# EAGLE library part FTSH-117 (library headstage-no-omnetics)
FTSH-117 17x2 Samtec Header 2 row 50 mil spacing
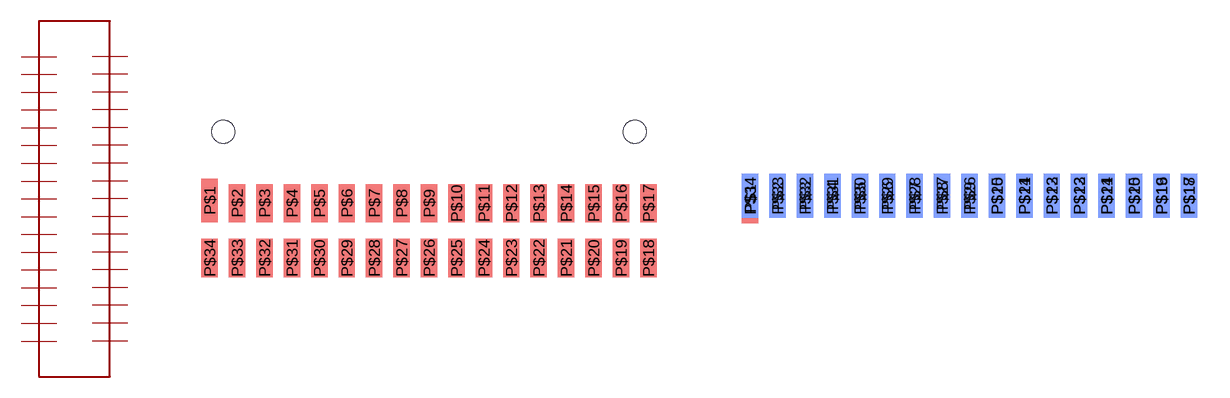
[diagram p2: symbol with the pads of FTSH-117-DH; footprints FTSH-117-DH, FTSH-117-END]

Designator prefix -

## FTSH-117  [FTSH-117-DH]
P$1  P$1
P$2  P$2
P$3  P$3
P$4  P$4
P$5  P$5
P$6  P$6
P$7  P$7
P$8  P$8
P$9  P$9
P$10  P$10
P$11  P$11
P$12  P$12
P$13  P$13
P$14  P$14
P$15  P$15
P$16  P$16
P$17  P$17
P$18  P$18
P$19  P$19
P$20  P$20
P$21  P$21
P$22  P$22
P$23  P$23
P$24  P$24
P$25  P$25
P$26  P$26
P$27  P$27
P$28  P$28
P$29  P$29
P$30  P$30
P$31  P$31
P$32  P$32
P$33  P$33
P$34  P$34

## FTSH-117BOARD-END  [FTSH-117-END]
Pads as for FTSH-117-DH

## Footprint FTSH-117-DH (pad centres in mm)
smd 0.762 x 2.032: P$1 -10.16,1.397
smd 0.762 x 1.778: P$2 -8.89,1.27; P$3 -7.62,1.27; P$4 -6.35,1.27; P$5 -5.08,1.27; P$6 -3.81,1.27; P$7 -2.54,1.27; P$8 -1.27,1.27; P$9 0,1.27; P$10 1.27,1.27; P$11 2.54,1.27; P$12 3.81,1.27; P$13 5.08,1.27; P$14 6.35,1.27; P$15 7.62,1.27; P$16 8.89,1.27; P$17 10.16,1.27; P$18 10.16,-1.27; P$19 8.89,-1.27; P$20 7.62,-1.27; P$21 6.35,-1.27; P$22 5.08,-1.27; P$23 3.81,-1.27; P$24 2.54,-1.27; P$25 1.27,-1.27; P$26 0,-1.27; P$27 -1.27,-1.27; P$28 -2.54,-1.27; P$29 -3.81,-1.27; P$30 -5.08,-1.27; P$31 -6.35,-1.27; P$32 -7.62,-1.27; P$33 -8.89,-1.27; P$34 -10.16,-1.27
hole 1.067 at -9.525,4.572
hole 1.067 at 9.525,4.572

## Footprint FTSH-117-END (pad centres in mm)
smd 0.762 x 2.286: P$1 -10.16,-0.127
smd 0.762 x 2.032: P$2 -8.89,0; P$3 -7.62,0; P$4 -6.35,0; P$5 -5.08,0; P$6 -3.81,0; P$7 -2.54,0; P$8 -1.27,0; P$9 0,0; P$10 1.27,0; P$11 2.54,0; P$12 3.81,0; P$13 5.08,0; P$14 6.35,0; P$15 7.62,0; P$16 8.89,0; P$17 10.16,0
smd 0.762 x 2.032 bottom: P$18 10.16,0; P$19 8.89,0; P$20 7.62,0; P$21 6.35,0; P$22 5.08,0; P$23 3.81,0; P$24 2.54,0; P$25 1.27,0; P$26 0,0; P$27 -1.27,0; P$28 -2.54,0; P$29 -3.81,0; P$30 -5.08,0; P$31 -6.35,0; P$32 -7.62,0; P$33 -8.89,0; P$34 -10.16,0